# EAGLE library part DISPLAY-LCD_EADIP203-4 (library Vorlage ATmega2560-16AU)
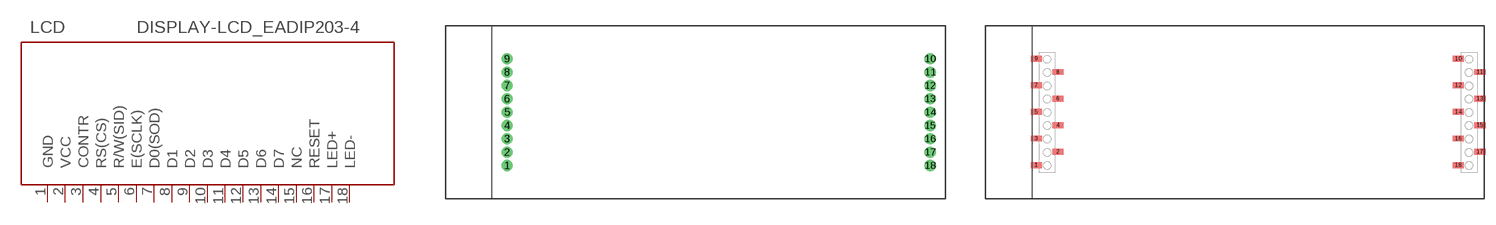
[diagram p7: symbol with the pads of DISPLAY-LCD_EADIP203-4; footprints DISPLAY-LCD_EADIP203-4, DISPLAY-LCD_EADIP203-4SMD]

Designator prefix LCD

## DISPLAY-LCD_EADIP203-4  [DISPLAY-LCD_EADIP203-4]
1  GND  pwr
2  VCC  pas
3  CONTR  in
4  RS(CS)  in
5  R/W(SID)  in
6  E(SCLK)  in
7  D0(SOD)  nc
8  D1  nc
9  D2  nc
10  D3  nc
11  D4  nc
12  D5  nc
13  D6  nc
14  D7  nc
15  NC  nc
16  RESET  nc
17  LED+  pas
18  LED-  pas

## DISPLAY-LCD_EADIP203-4EADIP203-4SMD  [DISPLAY-LCD_EADIP203-4SMD]
Pads as for DISPLAY-LCD_EADIP203-4

## Footprint DISPLAY-LCD_EADIP203-4 (pad centres in mm)
drill 1 pad 1.676: 1 -31.75,-8; 2 -31.75,-6; 3 -31.75,-4; 4 -31.75,-2; 5 -31.75,0; 6 -31.75,2; 7 -31.75,4; 8 -31.75,6; 9 -31.75,8; 10 31.75,8; 11 31.75,6; 12 31.75,4; 13 31.75,2; 14 31.75,0; 15 31.75,-2; 16 31.75,-4; 17 31.75,-6; 18 31.75,-8

## Footprint DISPLAY-LCD_EADIP203-4SMD (pad centres in mm)
smd 1.67 x 0.89: 1 -29.38,-9.92; 2 -26.13,-7.92; 3 -29.38,-5.92; 4 -26.13,-3.92; 5 -29.38,-1.92; 6 -26.13,0.08; 7 -29.38,2.08; 8 -26.13,4.08; 9 -29.38,6.08; 10 34.12,6.08; 11 37.37,4.08; 12 34.12,2.08; 13 37.37,0.08; 14 34.12,-1.92; 15 37.37,-3.92; 16 34.12,-5.92; 17 37.37,-7.92; 18 34.12,-9.92